# Altium schematic symbol library Sensors.SchLib: 1 symbol
Pins are listed as number, name and electrical type; pins without a type are passive.

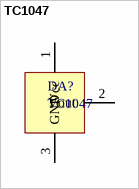
[diagram p0: symbol TC1047]

## TC1047
designator DA?
Precision temperature sensor with linear voltage output; Datasheet: http://ww1.microchip.com/downloads/en/DeviceDoc/21498D.pdf
footprint SOT-23-3
pins: 1 Vcc, 2 Vout, 3 GND